# EAGLE library part CONN_04X3 (library keir_library)
Multi connection point. Often used as Generic Header-pin footprint for 0.1 inch spaced/style header connections On any of the 0.1 inch spaced packages, you can populate with these: Break Away Headers - Straight <https://www.sparkfun.com/products/116> (PRT-00116) Break Away Male Headers - Right Angle <https://www.sparkfun.com/products/553> (PRT-00553) Female Headers <https://www.sparkfun.com/products/115> (PRT-00115) Break Away Headers - Machine Pin <https://www.sparkfun.com/products/117> (PRT-00117) Break Away Female Headers - Swiss Machine Pin <https://www.sparkfun.com/products/743> (PRT-00743) For SCREWTERMINALS and SPRING TERMINALS visit here: Screw Terimnals on SparkFun.com <https://www.sparkfun.com/search/results?term=Screw+Terminals> (5mm/3.5mm/2.54mm spacing) This device is also useful as a general connection point to wire up your design to another part of your project. Our various solder wires solder well into these plated through hole pads. Hook-Up Wire - Assortment (Stranded, 22 AWG) <https://www.sparkfun.com/products/11375> (PRT-11375) Hook-Up Wire - Assortment (Solid Core, 22 AWG) <https://www.sparkfun.com/products/11367> (PRT-11367) View the entire wire category on our website here <https://www.sparkfun.com/categories/141> Special notes: Molex polarized connector foot print use with SKU : PRT-08231 with associated crimp pins and housings. 1MM SMD Version SKU: PRT-10208
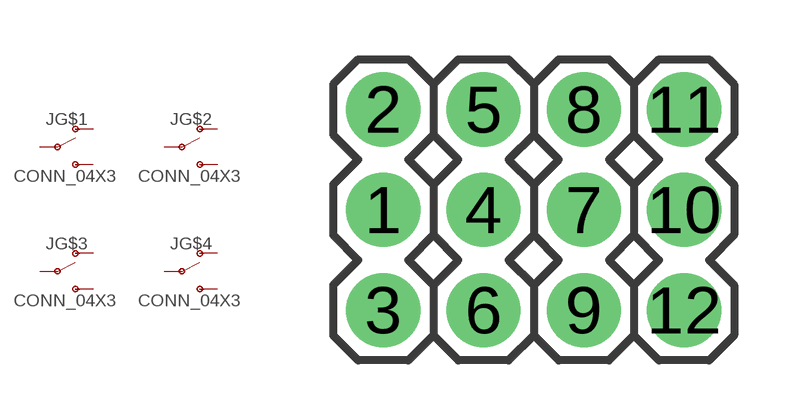
[diagram p7: symbol with the pads of 3X04_1.24MM_RA_MALE; footprint 3X04_1.24MM_RA_MALE]

Designator prefix J; gates G$1=TOGGLE G$2=TOGGLE G$3=TOGGLE G$4=TOGGLE

## CONN_04X3  [3X04_1.24MM_RA_MALE]
1  G$1:P  pas
2  G$1:O  pas
3  G$1:S  pas
4  G$2:P  pas
5  G$2:O  pas
6  G$2:S  pas
7  G$3:P  pas
8  G$3:O  pas
9  G$3:S  pas
10  G$4:P  pas
11  G$4:O  pas
12  G$4:S  pas

## Footprint 3X04_1.24MM_RA_MALE (pad centres in mm)
Plated Through Hole - 12 Pin Specifications: Pin count:12 Pin layout:4X3 Pin pitch:0.1" Example device(s): CONN_04X3
drill 1.016 pad 1.88: 1 0,-2.54; 2 0,0; 3 0,-5.08; 4 2.54,-2.54; 5 2.54,0; 6 2.54,-5.08; 7 5.08,-2.54; 8 5.08,0; 9 5.08,-5.08; 10 7.62,-2.54; 11 7.62,0; 12 7.62,-5.08